# Altium schematic symbol library SCH - DRIVER - LED - TI TLC5904_PZP_100_B.SchLib: 1 symbol
Pins are listed as number, name and electrical type; pins without a type are passive.

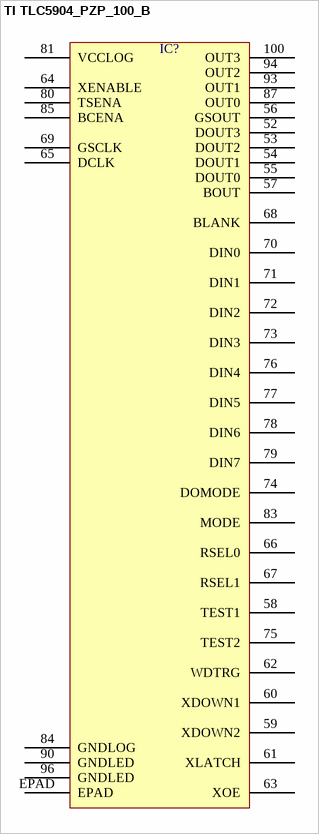
[diagram p0: symbol TI TLC5904_PZP_100_B]

## TI TLC5904_PZP_100_B
designator IC?  (value not drawn)
pins: 52 DOUT3, 53 DOUT2, 54 DOUT1, 55 DOUT0, 56 GSOUT, 57 BOUT, 58 TEST1, 59 XDOWN2, 60 XDOWN1, 61 XLATCH, 62 WDTRG, 63 XOE, 64 XENABLE, 65 DCLK, 66 RSEL0, 67 RSEL1, 68 BLANK, 69 GSCLK, 70 DIN0, 71 DIN1, 72 DIN2, 73 DIN3, 74 DOMODE, 75 TEST2, 76 DIN4, 77 DIN5, 78 DIN6, 79 DIN7, 80 TSENA, 81 VCCLOG, 83 MODE, 84 GNDLOG, 85 BCENA, 87 OUT0, 90 GNDLED, 93 OUT1, 94 OUT2, 96 GNDLED, 100 OUT3, EPAD